# Altium schematic symbol library ADE-1+.SchLib: 1 symbol
Pins are listed as number, name and electrical type; pins without a type are passive.

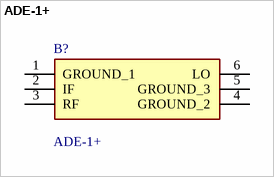
[diagram p0: symbol ADE-1+]

## ADE-1+
designator B?
RF Mixer Level 7, SMT Double Balanced Mixer, RF/LO Freq 0.5 - 500 MHz; Manufacturer_Name: Mini-Circuits; Geometry.Height: 4.11mm; Mouser Part Number: 139-ADE-1; Mouser Price/Stock: https://www.mouser.co.uk/ProductDetail/Mini-Circuits/ADE-1%2b?qs=xZ%2FP%252Ba9zWqZNkkNe3uAsRQ%3D%3D; Manufacturer_Part_Number: ADE-1+; Datasheet Link: https://componentsearchengine.com/Datasheets/1/ADE-1+.pdf
footprint ADE1
pins: 1 GROUND_1, 2 IF, 3 RF, 4 GROUND_2, 5 GROUND_3, 6 LO